# EAGLE library part LMP2232 (library LMP2232)
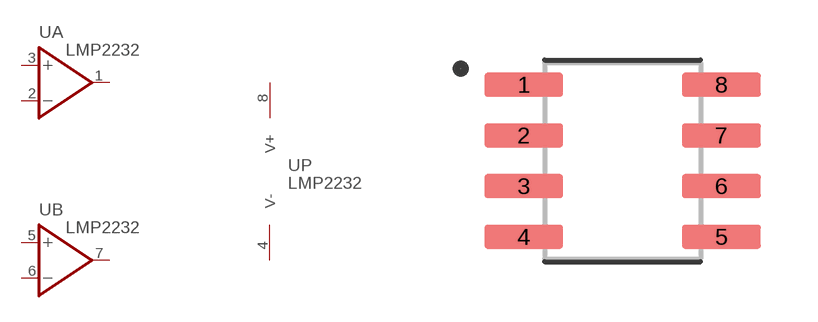
[diagram p0: symbol with the pads of SOIC127P599X175-8N; footprint SOIC127P599X175-8N]

Designator prefix -; gates A=OPAMP B=OPAMP P=SUPPLY

## LMP2232  [SOIC127P599X175-8N]
1  A:OUT  out
2  A:-IN  in
3  A:+IN  in
4  P:V-  pwr
5  B:+IN  in
6  B:-IN  in
7  B:OUT  out
8  P:V+  pwr

## Footprint SOIC127P599X175-8N (pad centres in mm)
smd 1.97 x 0.6: 1 -2.47,1.905; 2 -2.47,0.635; 3 -2.47,-0.635; 4 -2.47,-1.905; 5 2.47,-1.905; 6 2.47,-0.635; 7 2.47,0.635; 8 2.47,1.905